# Altium footprint library 2121_Robot3Roues1.PcbLib: 39 footprints (part 3 of 3)
Each footprint in its own frame and in the unit in brackets; x right, y up, seen from the top. Pads: shape width x height; smd on the part's side, far side on the other; paste and mask are expansions set on the pad; w line width, h text height; cw(c..) or ccw(c..) is an arc to the next point about the centre after c.
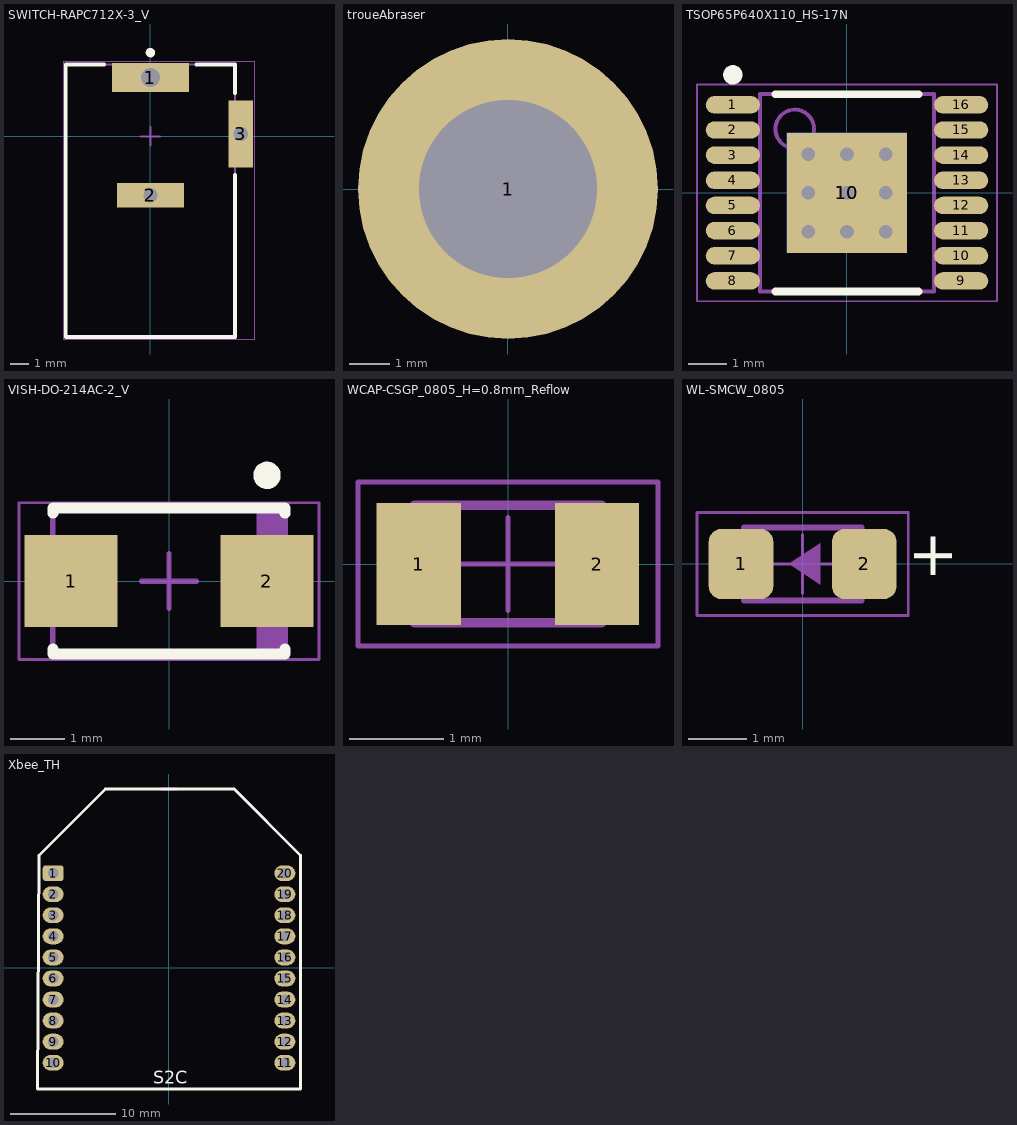
[diagram p2: the footprints below, top view; thin cyan lines are the x and y axes]

## SWITCH-RAPC712X-3_V [mm] "CONN, 3-Leads, Body 14.5x9mm"
height 11
pads (3):
  rect 4.1x1.55 hole 1.01 square: 1(0,3.125)
  rect 3.55x1.3 hole 0.76 square: 2(0,-3.125)
  rect 1.3x3.55 hole 0.76 square: 3(4.8,0.125)
Top Overlay:
  circle w0.25: c0,4.45 r0.125
  lines w0.2: -2.45,3.825 -4.5,3.825 -4.5,-10.675 4.5,-10.675 4.5,-2.05 ; 2.45,3.825 4.5,3.825 4.5,2.3
Mechanical 13:
  lines w0.1: -4.5,-10.675 4.5,-10.675 4.5,3.825 -4.5,3.825 -4.5,-10.675
Mechanical 15:
  lines w0.05: -4.6,-10.775 -4.6,4 5.55,4 5.55,-10.775 -4.6,-10.775
  lines w0.1: -0.5,0 0.5,0 ; 0,-0.5 0,0.5
3D body: height 11, standoff 0, extent -4.5,-10.675 4.5,3.825

## troueAbraser [mm] "M3 Thread Internal, Length 5mm"
height 5
pads (1):
  round 7.4 / inner round 0 / far side round 0 hole 4.4 unplated paste-403.566: 1(0,0)
Top Paste:
  region: -3.641,0.25 -2.236,0.25 -2.207,0.437 -2.102,0.801 -1.938,1.143 -1.719,1.452 -1.451,1.719 -1.142,1.938 -0.801,2.103 -0.437,2.207 -0.25,2.236 -0.25,3.641 -0.468,3.626 -0.897,3.545 -1.313,3.413 -1.71,3.232 -2.083,3.005 -2.426,2.735 -2.735,2.427 -3.005,2.083 -3.232,1.71 -3.413,1.313 -3.545,0.897 -3.626,0.468
  region: -0.25,-3.641 -0.25,-2.236 -0.437,-2.207 -0.801,-2.102 -1.143,-1.938 -1.452,-1.719 -1.719,-1.451 -1.938,-1.142 -2.103,-0.801 -2.207,-0.437 -2.236,-0.25 -3.641,-0.25 -3.626,-0.468 -3.545,-0.897 -3.413,-1.313 -3.232,-1.71 -3.005,-2.083 -2.735,-2.427 -2.427,-2.735 -2.083,-3.005 -1.71,-3.232 -1.313,-3.413 -0.897,-3.545 -0.468,-3.626
  region: 3.641,-0.25 2.236,-0.25 2.207,-0.437 2.102,-0.801 1.938,-1.143 1.719,-1.452 1.451,-1.719 1.142,-1.938 0.801,-2.103 0.437,-2.207 0.25,-2.236 0.25,-3.641 0.468,-3.626 0.897,-3.545 1.313,-3.413 1.71,-3.232 2.083,-3.005 2.427,-2.735 2.735,-2.427 3.005,-2.083 3.232,-1.71 3.413,-1.313 3.545,-0.897 3.626,-0.468
  region: 0.25,3.641 0.25,2.236 0.437,2.207 0.801,2.102 1.143,1.938 1.452,1.719 1.719,1.451 1.938,1.142 2.103,0.801 2.207,0.437 2.236,0.25 3.641,0.25 3.626,0.468 3.545,0.897 3.413,1.313 3.232,1.71 3.005,2.083 2.735,2.426 2.427,2.735 2.083,3.005 1.71,3.232 1.313,3.413 0.897,3.545 0.468,3.626
Mechanical 13:
  circle w0.15: c0,0 r3
3D body "9774050360.stp": height 5.01, standoff -1.39, extent -3,-3 3,3

## TSOP65P640X110_HS-17N [mm] "TSOP, 16-Leads, Body 5.00x4.40mm, Pitch 0.65mm, Thermal Pad 3.10x3.10mm, IPC Medium Density"
height 1.1
pads (18):
  oval 1.4x0.45 smd: 1(-2.95,2.275) 2(-2.95,1.625) 3(-2.95,0.975) 4(-2.95,0.325) 5(-2.95,-0.325) 6(-2.95,-0.975) 7(-2.95,-1.625) 8(-2.95,-2.275) 9(2.95,-2.275) 10(2.95,-1.625) 11(2.95,-0.975) 12(2.95,-0.325) 13(2.95,0.325) 14(2.95,0.975) 15(2.95,1.625) 16(2.95,2.275)
  rect 3.1x3.1 smd: 10(0,0)
  rect 3.1x3.1 smd far side: 10(0,0)
via 1,1 diameter 0.75 hole 0.35
via 1,0 diameter 0.75 hole 0.35
via 0,1 diameter 0.75 hole 0.35
via 0,0 diameter 0.75 hole 0.35
via -1,1 diameter 0.75 hole 0.35
via -1,0 diameter 0.75 hole 0.35
via 1,-1 diameter 0.75 hole 0.35
via 0,-1 diameter 0.75 hole 0.35
via -1,-1 diameter 0.75 hole 0.35
Top Overlay:
  circle w0.25: c-2.95,3.05 r0.125
  lines w0.2: -1.85,-2.55 1.85,-2.55 ; -1.85,2.55 1.85,2.55
Mechanical 13:
  circle w0.1: c-1.35,1.65 r0.5
  lines w0.1: -2.25,-2.55 2.25,-2.55 2.25,2.55 -2.25,2.55 -2.25,-2.55
Mechanical 15:
  lines w0.05: -3.875,-2.8 3.875,-2.8 3.875,2.8 -3.875,2.8 -3.875,-2.8
  lines w0.1: -0.5,0 0.5,0 ; 0,-0.5 0,0.5
3D body "TSOP65P640X110_HS-17N.step": height 1.1, standoff 0, extent -3.187,-2.55 3.187,2.55

## VISH-DO-214AC-2_V [mm] "SMA, 2-Leads, Body 4.245x2.665mm, Height 2.29mm"
height 2.29
pads (2):
  rect 1.7x1.68 smd: 1(-1.79,0) 2(1.79,0)
Top Overlay:
  circle w0.25: c1.79,1.933 r0.125
  lines w0.2: -2.123,-1.24 -2.123,-1.332 2.123,-1.332 2.123,-1.24 ; -2.123,1.24 -2.123,1.332 2.123,1.332 2.123,1.24
Mechanical 13:
  rectangle: 1.6,-1.3 2.1,1.3
  lines w0.1: -2.122,-1.333 -2.122,1.333 2.122,1.333 2.122,-1.333 -2.122,-1.333
Mechanical 15:
  lines w0.05: -2.74,-1.433 2.74,-1.433 2.74,1.432 -2.74,1.433 -2.74,-1.432
  lines w0.1: -0.5,0 0.5,0 ; 0,-0.5 0,0.5
3D body: height -0.41, standoff -1.67, extent -2.567,-0.725 -1.159,0.725
3D body: height -0.41, standoff -1.67, extent 1.159,-0.725 2.567,0.725
3D body: height 2.29, standoff 0, extent -2.123,-1.333 2.122,1.332

## WCAP-CSGP_0805_H=0.8mm_Reflow [mm]
pads (2):
  rect 0.9x1.3 smd: 1(-0.95,0) 2(0.95,0)
Top 3D Body:
  lines w0.1: -1,-0.625 1,-0.625 1,0.625 -1,0.625 -1,-0.625
Top Courtyard:
  lines w0.05: -0.5,0 0.5,0 ; 0,-0.5 0,0.5 ; -1.6,-0.875 -1.6,0.875 1.6,0.875 1.6,-0.875 -1.6,-0.875
3D body "2x1.25x0.8x0.5.stp": height 0.8, standoff 0, extent -1,-0.625 1,0.625

## WL-SMCW_0805 [mm]
pads (2):
  rrect40% 1.1x1.2 smd: 1(-1.05,0) 2(1.05,0)
Top Overlay:
  text "+" at 2.55,-0.3 h0.76
Top 3D Body:
  region: -0.233,0 0.3,-0.35 0.3,0.35
  lines w0.1: -1,-0.625 -1,0.625 1,0.625 1,-0.625 -1,-0.625
Top Courtyard:
  lines w0.05: -0.5,0 0.5,0 ; 0,-0.5 0,0.5 ; -1.8,-0.875 -1.8,0.875 1.8,0.875 1.8,-0.875 -1.8,-0.875
3D body "150080xS75000.stp": height 0.7, standoff 0, extent -1,-0.625 1,0.625

## Xbee_TH [mm]
pads (20):
  rrect40% 2x1.5 hole 1: 1(-11,9)
  oval 2x1.5 hole 1: 2(-11,7) 3(-11,5) 4(-11,3) 5(-11,1) 6(-11,-1) 7(-11,-3) 8(-11,-5) 9(-11,-7) 10(-11,-9) 11(11,-9) 12(11,-7) 13(11,-5) 14(11,-3) 15(11,-1) 16(11,1) 17(11,3) 18(11,5) 19(11,7) 20(11,9)
Top Overlay:
  lines w0.254: 12.483,-11.5 -12.5,-11.5 -12.354,10.696 -6.05,17 6.2,17 12.5,10.7 12.5,-11.5
  text "S2C" at -1.5,-11 h1.2
Mechanical 1:
  lines w0.254: -0.7,17 0.7,17
3D body "User Library-XBee-Chip.STEP": height 3.56, standoff -3.94, extent -12.377,-11.193 12.123,16.707